# Altium footprint library Transformers.PcbLib: 55 footprints (part 1 of 4)
Each footprint in its own frame and in the unit in brackets; x right, y up, seen from the top. Pads: shape width x height; smd on the part's side, far side on the other; paste and mask are expansions set on the pad; w line width, h text height; cw(c..) or ccw(c..) is an arc to the next point about the centre after c.
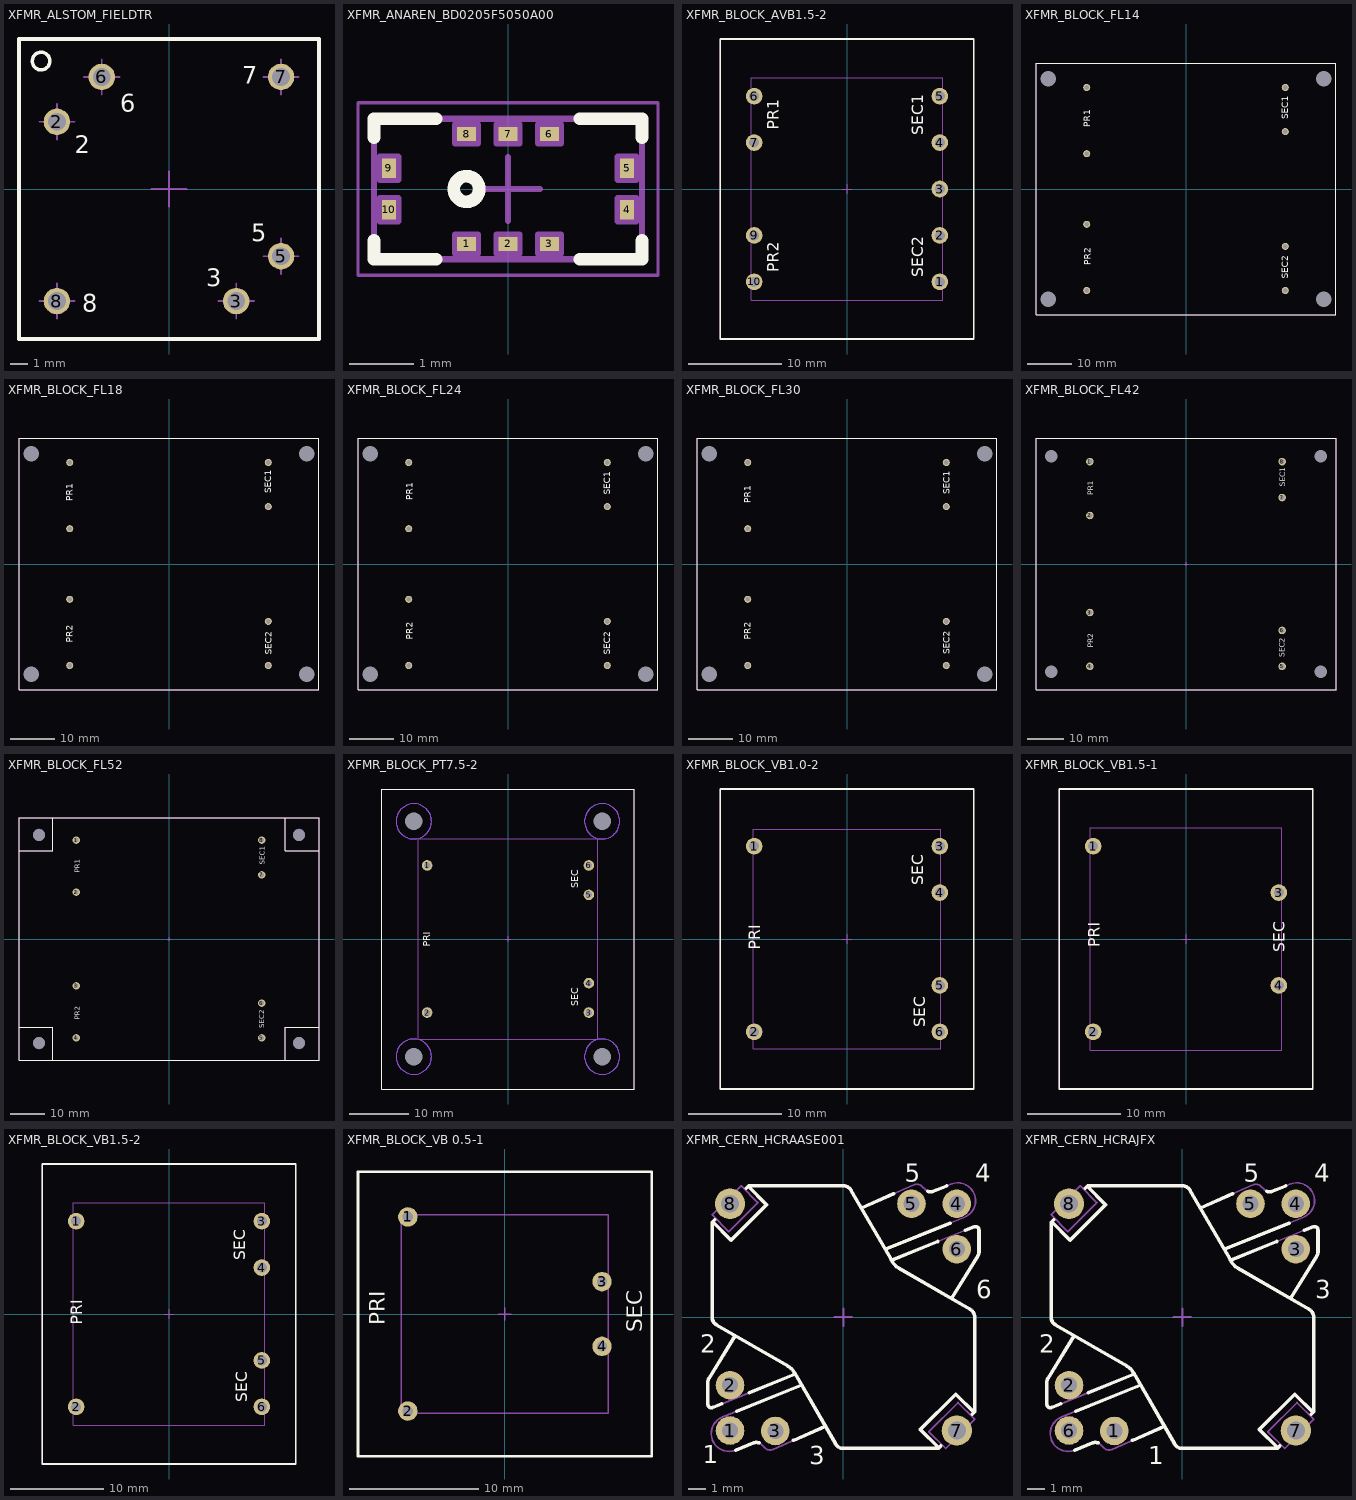
[diagram p0: the footprints below, top view; thin cyan lines are the x and y axes]

## XFMR_ALSTOM_FIELDTR [mm] "FIELDTR Transformer - Body 17X17mm"
height 10
pads (6):
  round 1.5 hole 1: 2(-6.35,3.81) 3(3.81,-6.35) 5(6.35,-3.81) 6(-3.81,6.35) 7(6.35,6.35) 8(-6.35,-6.35)
Top Overlay:
  circle w0.2: c-7.25,7.25 r0.5
  lines w0.2: -8.5,-8.5 8.5,-8.5 8.5,8.5 -8.5,8.5 -8.5,-8.5
  text "7" at 4.157,5.95 h1
  text "8" at -4.907,-6.95 h1
  text "2" at -5.336,2.033 h1
  text "6" at -2.771,4.388 h1
  text "5" at 4.657,-2.96 h1
  text "3" at 2.117,-5.5 h1
Mechanical 8:
  lines w0.1: -7.35,-6.35 -6.35,-6.35 ; -7.35,3.81 -6.35,3.81 ; -6.35,-7.35 -6.35,-6.35 ; -6.35,-5.35 -6.35,-6.35 ; -6.35,2.81 -6.35,3.81 ; -6.35,4.81 -6.35,3.81 ; -5.35,-6.35 -6.35,-6.35 ; -5.35,3.81 -6.35,3.81 ; -4.81,6.35 -3.81,6.35 ; -3.81,5.35 -3.81,6.35 ; -3.81,7.35 -3.81,6.35 ; -2.81,6.35 -3.81,6.35 ; -1,0 0,0 ; 0,-1 0,0 ; 0,1 0,0 ; 1,0 0,0 ; 2.81,-6.35 3.81,-6.35 ; 3.81,-7.35 3.81,-6.35 ; 3.81,-5.35 3.81,-6.35 ; 4.81,-6.35 3.81,-6.35 ; 5.35,-3.81 6.35,-3.81 ; 5.35,6.35 6.35,6.35 ; 6.35,-4.81 6.35,-3.81 ; 6.35,-2.81 6.35,-3.81 ; 6.35,5.35 6.35,6.35 ; 6.35,7.35 6.35,6.35 ; 7.35,-3.81 6.35,-3.81 ; 7.35,6.35 6.35,6.35
Mechanical 14:
  circle w0.1: c-7.25,7.25 r0.5
  lines w0.1: -8.5,-8.5 8.5,-8.5 8.5,8.5 -8.5,8.5 -8.5,-8.5
  text "7" at 4.157,5.95 h1
  text "8" at -4.907,-6.95 h1
  text "2" at -5.336,2.033 h1
  text "6" at -2.771,4.388 h1
  text "5" at 4.657,-2.96 h1
  text "3" at 2.117,-5.5 h1
3D body "XFMR_ALSTOM_FIELDTR.stp": height 10.5, standoff -3.2, extent -8.5,-8.5 8.5,8.5

## XFMR_ANAREN_BD0205F5050A00 [mm] "70MHz - 1000MHz Ultra Low Profile Sub-Miniature (Body 4.1x2.1mm) Balanced to Unbalanced Transformer"
height 0.91
pads (10):
  rect 0.3x0.22 smd: 1(-0.65,-0.86) 2(0,-0.86) 3(0.65,-0.86) 6(0.65,0.86) 7(0,0.86) 8(-0.65,0.86)
  rect 0.22x0.3 smd: 4(1.865,-0.325) 5(1.865,0.325) 9(-1.865,0.325) 10(-1.865,-0.325)
Top Overlay:
  circle w0.2: c-0.65,0 r0.2
  lines w0.2: -2.1,-0.805 -2.1,-1.1 -1.13,-1.1 ; -2.1,0.805 -2.1,1.1 -1.13,1.1 ; 1.13,-1.1 2.1,-1.1 2.1,-0.805 ; 1.13,1.1 2.1,1.1 2.1,0.805
Mechanical 8:
  lines w0.1: -0.5,0 0,0 ; 0,-0.5 0,0 ; 0,0.5 0,0 ; 0.5,0 0,0 ; -2.01,-0.505 -1.865,-0.325 -2.01,-0.145 ; -2.01,-0.505 -1.72,-0.505 -1.72,-0.145 -2.01,-0.145 ; -2.01,-0.505 -2.01,-0.145 ; -2.01,0.145 -1.865,0.325 -2.01,0.505 ; -2.01,0.145 -1.72,0.145 -1.72,0.505 -2.01,0.505 ; -2.01,0.145 -2.01,0.505 ; -0.83,-1.005 -0.65,-0.86 -0.47,-1.005 ; -0.83,-1.005 -0.83,-0.715 -0.47,-0.715 -0.47,-1.005 ; -0.83,-1.005 -0.47,-1.005 ; -0.83,1.005 -0.65,0.86 -0.47,1.005 ; -0.83,1.005 -0.83,0.715 -0.47,0.715 -0.47,1.005 ; -0.83,1.005 -0.47,1.005 ; -0.18,-1.005 0,-0.86 0.18,-1.005 ; -0.18,-1.005 -0.18,-0.715 0.18,-0.715 0.18,-1.005 ; -0.18,-1.005 0.18,-1.005 ; -0.18,1.005 0,0.86 0.18,1.005 ; -0.18,1.005 -0.18,0.715 0.18,0.715 0.18,1.005 ; -0.18,1.005 0.18,1.005 ; 0.47,-1.005 0.65,-0.86 0.83,-1.005 ; 0.47,-1.005 0.47,-0.715 0.83,-0.715 0.83,-1.005 ; 0.47,-1.005 0.83,-1.005 ; 0.47,1.005 0.65,0.86 0.83,1.005 ; 0.47,1.005 0.47,0.715 0.83,0.715 0.83,1.005 ; 0.47,1.005 0.83,1.005 ; 2.01,-0.505 1.865,-0.325 2.01,-0.145 ; 2.01,-0.505 1.72,-0.505 1.72,-0.145 2.01,-0.145 ; 2.01,-0.505 2.01,-0.145 ; 2.01,0.145 1.865,0.325 2.01,0.505 ; 2.01,0.145 1.72,0.145 1.72,0.505 2.01,0.505 ; 2.01,0.145 2.01,0.505
Mechanical 14:
  circle w0.1: c-0.65,0 r0.2
  lines w0.1: -2.1,-1.1 -2.1,1.1 2.1,1.1 2.1,-1.1 -2.1,-1.1
Mechanical 15:
  lines w0.05: -2.35,-1.35 -2.35,1.35 2.35,1.35 2.35,-1.35 -2.35,-1.35
3D body "XFMR_ANAREN_BD0205F5050A00.stp": height 0.91, standoff 0, extent -2.05,-1.05 2.05,1.05

## XFMR_BLOCK_AVB1.5-2 [mm] "BLOCK TRANSFORMATOREN Serie VB, Body 32.3mm x 27.3mm"
height 23.8
pads (9):
  round 1.8 hole 1.1: 1(10,-10) 2(10,-5) 3(10,0) 4(10,5) 5(10,10) 6(-10,10) 7(-10,5) 9(-10,-5) 10(-10,-10)
Top Overlay:
  lines w0.2: -13.65,-16.15 13.65,-16.15 13.65,16.15 -13.65,16.15 -13.65,-16.15
  text "PR1" at -7.375,6.375 h1.2
  text "PR2" at -7.375,-8.975 h1.2
  text "SEC1" at 8.225,5.8 h1.2
  text "SEC2" at 8.225,-9.525 h1.2
Mechanical 8:
  lines w0.1: -10.5,-10 -10,-10 ; -10.5,-5 -10,-5 ; -10.5,5 -10,5 ; -10.5,10 -10,10 ; -10,-10.5 -10,-10 ; -10,-9.5 -10,-10 ; -10,-5.5 -10,-5 ; -10,-4.5 -10,-5 ; -10,4.5 -10,5 ; -10,5.5 -10,5 ; -10,9.5 -10,10 ; -10,10.5 -10,10 ; -9.5,-10 -10,-10 ; -9.5,-5 -10,-5 ; -9.5,5 -10,5 ; -9.5,10 -10,10 ; -0.5,0 0,0 ; 0,-0.5 0,0 ; 0,0.5 0,0 ; 0.5,0 0,0 ; 9.5,-10 10,-10 ; 9.5,-5 10,-5 ; 9.5,0 10,0 ; 9.5,5 10,5 ; 9.5,10 10,10 ; 10,-10.5 10,-10 ; 10,-9.5 10,-10 ; 10,-5.5 10,-5 ; 10,-4.5 10,-5 ; 10,-0.5 10,0 ; 10,0.5 10,0 ; 10,4.5 10,5 ; 10,5.5 10,5 ; 10,9.5 10,10 ; 10,10.5 10,10 ; 10.5,-10 10,-10 ; 10.5,-5 10,-5 ; 10.5,0 10,0 ; 10.5,5 10,5 ; 10.5,10 10,10
Mechanical 14:
  lines w0.1: -13.65,-16.15 13.65,-16.15 13.65,16.15 -13.65,16.15 -13.65,-16.15 ; -10.3,-12 10.3,-12 10.3,12 -10.3,12 -10.3,-12
  text "PR1" at -7.375,6.375 h1.2
  text "PR2" at -7.375,-8.975 h1.2
  text "SEC1" at 8.225,5.8 h1.2
  text "SEC2" at 8.225,-9.525 h1.2
3D body "XFMR_BLOCK_AVB1.5-2.stp": height 23.6, standoff -3.6, extent -13.65,-16.15 13.65,16.15

## XFMR_BLOCK_FL14 [mm] "BLOCK TRANSFORMATOREN Serie FL, Body 68mm x 57mm"
height 24.4
pads (12):
  round 1.6 hole 1.1: 1(-22.5,23) 2(-22.5,8) 3(-22.5,-8) 4(-22.5,-23) 5(22.5,-23) 6(22.5,-13) 7(22.5,13) 8(22.5,23)
  round 1 hole 3.5 unplated: 9(31.25,25) 10(31.25,-25) 11(-31.25,-25) 12(-31.25,25)
Top Overlay:
  lines w0.2: -34,-28.5 34,-28.5 34,28.5 -34,28.5 -34,-28.5
  text "SEC1" at 23.225,15.8 h1.5
  text "SEC2" at 23.225,-20.4 h1.5
  text "PR2" at -21.6,-17.325 h1.5
  text "PR1" at -21.675,14.025 h1.5
Mechanical 14:
  lines w0.1: -34,-28.5 34,-28.5 34,28.5 -34,28.5 -34,-28.5
  text "SEC1" at 23.225,15.8 h1.5
  text "SEC2" at 23.225,-20.4 h1.5
  text "PR2" at -21.6,-17.325 h1.5
  text "PR1" at -21.675,14.025 h1.5
3D body "XFMR_BLOCK_FL14.stp": height 24.4, standoff -3.6, extent -34,-28.525 34,28.475

## XFMR_BLOCK_FL18 [mm] "BLOCK TRANSFORMATOREN Serie FL, Body 68mm x 57mm"
height 27.6
pads (12):
  round 1.6 hole 1.1: 1(-22.5,23) 2(-22.5,8) 3(-22.5,-8) 4(-22.5,-23) 5(22.5,-23) 6(22.5,-13) 7(22.5,13) 8(22.5,23)
  round 1 hole 3.5 unplated: 9(31.25,25) 10(31.25,-25) 11(-31.25,-25) 12(-31.25,25)
Top Overlay:
  lines w0.2: -34,-28.5 34,-28.5 34,28.5 -34,28.5 -34,-28.5
  text "SEC1" at 23.2,16.075 h1.5
  text "SEC2" at 23.3,-20.6 h1.5
  text "PR2" at -21.8,-17.825 h1.5
  text "PR1" at -21.8,14.2 h1.5
Mechanical 14:
  lines w0.1: -34,-28.5 34,-28.5 34,28.5 -34,28.5 -34,-28.5
  text "SEC1" at 23.2,16.075 h1.5
  text "SEC2" at 23.3,-20.6 h1.5
  text "PR2" at -21.8,-17.825 h1.5
  text "PR1" at -21.8,14.2 h1.5
3D body "XFMR_BLOCK_FL18.stp": height 27.6, standoff -3.6, extent -34,-28.525 34,28.475

## XFMR_BLOCK_FL24 [mm] "BLOCK TRANSFORMATOREN Serie FL, Body 68mm x 57mm"
height 31.4
pads (12):
  round 1.6 hole 1.1: 1(-22.5,23) 2(-22.5,8) 3(-22.5,-8) 4(-22.5,-23) 5(22.5,-23) 6(22.5,-13) 7(22.5,13) 8(22.5,23)
  round 1 hole 3.5 unplated: 9(31.25,25) 10(31.25,-25) 11(-31.25,-25) 12(-31.25,25)
Top Overlay:
  lines w0.2: -34,-28.5 -34,28.5 34,28.5 34,-28.5 -34,-28.5
  text "PR1" at -21.6,14.425 h1.5
  text "PR2" at -21.6,-17.175 h1.5
  text "SEC2" at 23.2,-20.55 h1.5
  text "SEC1" at 23.2,15.65 h1.5
Mechanical 14:
  lines w0.1: -34,-28.5 -34,28.5 34,28.5 34,-28.5 -34,-28.5
  text "PR1" at -21.6,14.425 h1.5
  text "PR2" at -21.6,-17.175 h1.5
  text "SEC2" at 23.2,-20.55 h1.5
  text "SEC1" at 23.2,15.65 h1.5
3D body "XFMR_BLOCK_FL24.stp": height 31.4, standoff -3.6, extent -34,-28.525 34,28.475

## XFMR_BLOCK_FL30 [mm] "BLOCK TRANSFORMATOREN Serie FL, Body 68mm x 57mm"
height 35.8
pads (12):
  round 1.6 hole 1.1: 1(-22.5,23) 2(-22.5,8) 3(-22.5,-8) 4(-22.5,-23) 5(22.5,-23) 6(22.5,-13) 7(22.5,13) 8(22.5,23)
  round 1 hole 3.5 unplated: 9(31.25,25) 10(31.25,-25) 11(-31.25,-25) 12(-31.25,25)
Top Overlay:
  lines w0.2: -34,-28.5 -34,28.5 34,28.5 34,-28.5 -34,-28.5
  text "PR1" at -21.8,13.775 h1.5
  text "PR2" at -21.8,-17.225 h1.5
  text "SEC2" at 23.325,-20.425 h1.5
  text "SEC1" at 23.325,15.775 h1.5
Mechanical 14:
  lines w0.1: -34,-28.5 -34,28.5 34,28.5 34,-28.5 -34,-28.5
  text "PR1" at -21.8,13.775 h1.5
  text "PR2" at -21.8,-17.225 h1.5
  text "SEC2" at 23.325,-20.425 h1.5
  text "SEC1" at 23.325,15.775 h1.5
3D body "XFMR_BLOCK_FL30.stp": height 35.8, standoff -3.6, extent -34,-28.525 34,28.475

## XFMR_BLOCK_FL42 [mm] "BLOCK TRANSFORMATOREN Serie FL, Body 83.5mm x 70mm"
height 39
pads (12):
  round 2.1 hole 1.4: 1(-26.75,28.5) 2(-26.75,13.5) 3(-26.75,-13.5) 4(-26.75,-28.5) 5(26.75,-28.5) 6(26.75,-18.5) 7(26.75,18.5) 8(26.75,28.5)
  round 1 hole 3.5 unplated: 9(37.5,30) 10(37.5,-30) 11(-37.5,-30) 12(-37.5,30)
Top Overlay:
  lines w0.2: -41.75,-35 41.75,-35 41.75,35 -41.75,35 -41.75,-35
  text "SEC1" at 27.575,21.45 h1.5
  text "SEC2" at 27.45,-25.95 h1.5
  text "PR2" at -25.75,-23.35 h1.5
  text "PR1" at -25.75,19.15 h1.5
Mechanical 8:
  lines w0.1: -38,-30 -37.5,-30 ; -38,30 -37.5,30 ; -37.5,-30.5 -37.5,-30 ; -37.5,-29.5 -37.5,-30 ; -37.5,29.5 -37.5,30 ; -37.5,30.5 -37.5,30 ; -37,-30 -37.5,-30 ; -37,30 -37.5,30 ; -27.25,-28.5 -26.75,-28.5 ; -27.25,-13.5 -26.75,-13.5 ; -27.25,13.5 -26.75,13.5 ; -27.25,28.5 -26.75,28.5 ; -26.75,-29 -26.75,-28.5 ; -26.75,-28 -26.75,-28.5 ; -26.75,-14 -26.75,-13.5 ; -26.75,-13 -26.75,-13.5 ; -26.75,13 -26.75,13.5 ; -26.75,14 -26.75,13.5 ; -26.75,28 -26.75,28.5 ; -26.75,29 -26.75,28.5 ; -26.25,-28.5 -26.75,-28.5 ; -26.25,-13.5 -26.75,-13.5 ; -26.25,13.5 -26.75,13.5 ; -26.25,28.5 -26.75,28.5 ; -0.5,0 0,0 ; 0,-0.5 0,0 ; 0,0.5 0,0 ; 0.5,0 0,0 ; 26.25,-28.5 26.75,-28.5 ; 26.25,-18.5 26.75,-18.5 ; 26.25,18.5 26.75,18.5 ; 26.25,28.5 26.75,28.5 ; 26.75,-29 26.75,-28.5 ; 26.75,-28 26.75,-28.5 ; 26.75,-19 26.75,-18.5 ; 26.75,-18 26.75,-18.5 ; 26.75,18 26.75,18.5 ; 26.75,19 26.75,18.5 ; 26.75,28 26.75,28.5 ; 26.75,29 26.75,28.5 ; 27.25,-28.5 26.75,-28.5 ; 27.25,-18.5 26.75,-18.5 ; 27.25,18.5 26.75,18.5 ; 27.25,28.5 26.75,28.5 ; 37,-30 37.5,-30 ; 37,30 37.5,30 ; 37.5,-30.5 37.5,-30 ; 37.5,-29.5 37.5,-30 ; 37.5,29.5 37.5,30 ; 37.5,30.5 37.5,30 ; 38,-30 37.5,-30 ; 38,30 37.5,30
Mechanical 14:
  lines w0.1: -41.75,-35 -41.75,35 41.75,35 41.75,-35 -41.75,-35
  text "SEC1" at 27.575,21.45 h1.5
  text "SEC2" at 27.45,-25.95 h1.5
  text "PR2" at -25.75,-23.35 h1.5
  text "PR1" at -25.75,19.15 h1.5
3D body "XFMR_BLOCK_FL42.stp": height 39, standoff -3.6, extent -41.75,-35 41.75,35

## XFMR_BLOCK_FL52 [mm] "BLOCK TRANSFORMATOREN Serie FL, Body 86.5mm x 70mm"
height 39
pads (12):
  round 2.1 hole 1.4: 1(-26.75,28.5) 2(-26.75,13.5) 3(-26.75,-13.5) 4(-26.75,-28.5) 5(26.75,-28.5) 6(26.75,-18.5) 7(26.75,18.5) 8(26.75,28.5)
  round 1 hole 3.5 unplated: 9(37.5,30) 10(37.5,-30) 11(-37.5,-30) 12(-37.5,30)
Top Overlay:
  lines w0.2: -43.25,-25.5 -33.5,-25.5 -33.5,-35 ; -43.25,25.5 -33.5,25.5 -33.5,35 ; 33.5,-35 33.5,-25.5 43.25,-25.5 ; 33.5,35 33.5,25.5 43.25,25.5 ; -43.25,-35 43.25,-35 ; -43.25,-35 -43.25,35 ; -43.25,-35 43.25,-35 ; -43.25,-35 -43.25,35 ; -43.25,35 43.25,35 ; -43.25,35 43.25,35 ; 43.25,-35 43.25,35 ; 43.25,-35 43.25,35
  text "PR1" at -25.75,19.15 h1.5
  text "PR2" at -25.75,-23.35 h1.5
  text "SEC2" at 27.45,-25.8 h1.5
  text "SEC1" at 27.6,21.425 h1.5
Mechanical 8:
  lines w0.1: -38,-30 -37.5,-30 ; -38,30 -37.5,30 ; -37.5,-30.5 -37.5,-30 ; -37.5,-29.5 -37.5,-30 ; -37.5,29.5 -37.5,30 ; -37.5,30.5 -37.5,30 ; -37,-30 -37.5,-30 ; -37,30 -37.5,30 ; -27.25,-28.5 -26.75,-28.5 ; -27.25,-13.5 -26.75,-13.5 ; -27.25,13.5 -26.75,13.5 ; -27.25,28.5 -26.75,28.5 ; -26.75,-29 -26.75,-28.5 ; -26.75,-28 -26.75,-28.5 ; -26.75,-14 -26.75,-13.5 ; -26.75,-13 -26.75,-13.5 ; -26.75,13 -26.75,13.5 ; -26.75,14 -26.75,13.5 ; -26.75,28 -26.75,28.5 ; -26.75,29 -26.75,28.5 ; -26.25,-28.5 -26.75,-28.5 ; -26.25,-13.5 -26.75,-13.5 ; -26.25,13.5 -26.75,13.5 ; -26.25,28.5 -26.75,28.5 ; -0.5,0 0,0 ; 0,-0.5 0,0 ; 0,0.5 0,0 ; 0.5,0 0,0 ; 26.25,-28.5 26.75,-28.5 ; 26.25,-18.5 26.75,-18.5 ; 26.25,18.5 26.75,18.5 ; 26.25,28.5 26.75,28.5 ; 26.75,-29 26.75,-28.5 ; 26.75,-28 26.75,-28.5 ; 26.75,-19 26.75,-18.5 ; 26.75,-18 26.75,-18.5 ; 26.75,18 26.75,18.5 ; 26.75,19 26.75,18.5 ; 26.75,28 26.75,28.5 ; 26.75,29 26.75,28.5 ; 27.25,-28.5 26.75,-28.5 ; 27.25,-18.5 26.75,-18.5 ; 27.25,18.5 26.75,18.5 ; 27.25,28.5 26.75,28.5 ; 37,-30 37.5,-30 ; 37,30 37.5,30 ; 37.5,-30.5 37.5,-30 ; 37.5,-29.5 37.5,-30 ; 37.5,29.5 37.5,30 ; 37.5,30.5 37.5,30 ; 38,-30 37.5,-30 ; 38,30 37.5,30
Mechanical 14:
  circle w0.1: c37.5,30 r1.6
  circle w0.1: c-37.5,30 r1.6
  circle w0.1: c-37.5,-30 r1.6
  circle w0.1: c37.5,-30 r1.6
  lines w0.1: -43.25,-25.5 -33.5,-25.5 -33.5,-35 ; -43.25,25.5 -33.5,25.5 -33.5,35 ; 33.5,-35 33.5,-25.5 43.25,-25.5 ; 33.5,35 33.5,25.5 43.25,25.5 ; -43.25,-35 43.25,-35 ; -43.25,-35 -43.25,35 ; -43.25,-35 43.25,-35 ; -43.25,-35 -43.25,35 ; -43.25,35 43.25,35 ; -43.25,35 43.25,35 ; 43.25,-35 43.25,35 ; 43.25,-35 43.25,35
  text "PR1" at -25.75,19.15 h1.5
  text "PR2" at -25.75,-23.35 h1.5
  text "SEC2" at 27.45,-25.8 h1.5
  text "SEC1" at 27.6,21.425 h1.5
3D body "XFMR_BLOCK_FL52.stp": height 49, standoff -3.1, extent -43.25,-35 43.25,35

## XFMR_BLOCK_PT7.5-2 [mm] "BLOCK TRANSFORMATOREN Serie PT, Body 43mm x 51mm"
height 36
pads (10):
  round 1.8 hole 1.1: 1(-13.75,12.5) 2(-13.75,-12.5) 3(13.75,-12.5) 4(13.75,-7.5) 5(13.75,7.5) 6(13.75,12.5)
  round 1 hole 3 unplated: 7(-16,20) 8(-16,-20) 9(16,-20) 10(16,20)
Bottom Layer keep-out:
  circle w0.1: c-16,-20 r3
  circle w0.1: c16,-20 r3
  circle w0.1: c16,20 r3
  circle w0.1: c-16,20 r3
Top Overlay:
  lines w0.2: -21.5,-25.5 -21.5,25.5 21.5,25.5 21.5,-25.5 -21.5,-25.5
  text "SEC" at 11.975,8.6 h1.2
  text "PRI" at -13.2,-1.3 h1.2
  text "SEC" at 11.975,-11.4 h1.2
Mechanical 8:
  circle w0.1: c-16,20 r3
  circle w0.1: c-16,-20 r3
  circle w0.1: c16,-20 r3
  circle w0.1: c16,20 r3
  circle w0.1: c-16,20 r3
  lines w0.1: -16.5,-20 -16,-20 ; -16.5,20 -16,20 ; -16,-20.5 -16,-20 ; -16,-19.5 -16,-20 ; -16,19.5 -16,20 ; -16,20.5 -16,20 ; -15.5,-20 -16,-20 ; -15.5,20 -16,20 ; -14.25,-12.5 -13.75,-12.5 ; -14.25,12.5 -13.75,12.5 ; -13.75,-13 -13.75,-12.5 ; -13.75,-12 -13.75,-12.5 ; -13.75,12 -13.75,12.5 ; -13.75,13 -13.75,12.5 ; -13.25,-12.5 -13.75,-12.5 ; -13.25,12.5 -13.75,12.5 ; -0.5,0 0,0 ; 0,-0.5 0,0 ; 0,0.5 0,0 ; 0.5,0 0,0 ; 13.25,-12.5 13.75,-12.5 ; 13.25,-7.5 13.75,-7.5 ; 13.25,7.5 13.75,7.5 ; 13.25,12.5 13.75,12.5 ; 13.75,-13 13.75,-12.5 ; 13.75,-12 13.75,-12.5 ; 13.75,-8 13.75,-7.5 ; 13.75,-7 13.75,-7.5 ; 13.75,7 13.75,7.5 ; 13.75,8 13.75,7.5 ; 13.75,12 13.75,12.5 ; 13.75,13 13.75,12.5 ; 14.25,-12.5 13.75,-12.5 ; 14.25,-7.5 13.75,-7.5 ; 14.25,7.5 13.75,7.5 ; 14.25,12.5 13.75,12.5 ; 15.5,-20 16,-20 ; 15.5,20 16,20 ; 16,-20.5 16,-20 ; 16,-19.5 16,-20 ; 16,19.5 16,20 ; 16,20.5 16,20 ; 16.5,-20 16,-20 ; 16.5,20 16,20
Mechanical 14:
  lines w0.1: -21.5,-25.5 21.5,-25.5 21.5,25.5 -21.5,25.5 -21.5,-25.5 ; -15.25,-17.05 -15.25,17.05 15.25,17.05 15.25,-17.05 -15.25,-17.05
  text "SEC" at 11.975,8.6 h1.2
  text "PRI" at -13.2,-1.3 h1.2
  text "SEC" at 11.975,-11.4 h1.2
3D body "XFMR_BLOCK_PT7.5-2.stp": height 36, standoff -3.6, extent -21.5,-25.5 21.5,25.5

## XFMR_BLOCK_VB1.0-2 [mm] "BLOCK TRANSFORMATOREN Serie VB, Body 27.3mm x 32.3mm"
height 21.8
pads (6):
  round 1.8 hole 1.1: 1(-10,10) 2(-10,-10) 3(10,10) 4(10,5) 5(10,-5) 6(10,-10)
Top Overlay:
  lines w0.2: -13.65,-16.15 13.65,-16.15 13.65,16.15 -13.65,16.15 -13.65,-16.15
  text "PRI" at -9.35,-1.175 h1.2
  text "SEC" at 8.225,5.8 h1.2
  text "SEC" at 8.4,-9.5 h1.2
Mechanical 8:
  lines w0.1: -10.5,-10 -10,-10 ; -10.5,10 -10,10 ; -10,-10.5 -10,-10 ; -10,-9.5 -10,-10 ; -10,9.5 -10,10 ; -10,10.5 -10,10 ; -9.5,-10 -10,-10 ; -9.5,10 -10,10 ; -0.5,0 0,0 ; 0,-0.5 0,0 ; 0,0.5 0,0 ; 0.5,0 0,0 ; 9.5,-10 10,-10 ; 9.5,-5 10,-5 ; 9.5,5 10,5 ; 9.5,10 10,10 ; 10,-10.5 10,-10 ; 10,-9.5 10,-10 ; 10,-5.5 10,-5 ; 10,-4.5 10,-5 ; 10,4.5 10,5 ; 10,5.5 10,5 ; 10,9.5 10,10 ; 10,10.5 10,10 ; 10.5,-10 10,-10 ; 10.5,-5 10,-5 ; 10.5,5 10,5 ; 10.5,10 10,10
Mechanical 14:
  lines w0.1: -13.65,-16.15 13.65,-16.15 13.65,16.15 -13.65,16.15 -13.65,-16.15 ; -10.1,-11.8 10.1,-11.8 10.1,11.8 -10.1,11.8 -10.1,-11.8
  text "PRI" at -9.35,-1.175 h1.2
  text "SEC" at 8.225,5.8 h1.2
  text "SEC" at 8.4,-9.5 h1.2
3D body "XFMR_BLOCK_VB1.0-2.stp": height 21.8, standoff -3.6, extent -13.65,-16.15 13.65,16.15

## XFMR_BLOCK_VB1.5-1 [mm] "BLOCK TRANSFORMATOREN Serie VB, Body 27.3mm x 32.3mm"
height 23.8
pads (4):
  round 1.8 hole 1.1: 1(-10,10) 2(-10,-10) 3(10,5) 4(10,-5)
Top Overlay:
  lines w0.2: -13.65,-16.15 -13.65,16.15 13.65,16.15 13.65,-16.15 -13.65,-16.15
  text "PRI" at -9.275,-0.875 h1.2
  text "SEC" at 10.625,-1.425 h1.2
Mechanical 8:
  lines w0.1: -10.5,-10 -10,-10 ; -10.5,10 -10,10 ; -10,-10.5 -10,-10 ; -10,-9.5 -10,-10 ; -10,9.5 -10,10 ; -10,10.5 -10,10 ; -9.5,-10 -10,-10 ; -9.5,10 -10,10 ; -0.5,0 0,0 ; 0,-0.5 0,0 ; 0,0.5 0,0 ; 0.5,0 0,0 ; 9.5,-5 10,-5 ; 9.5,5 10,5 ; 10,-5.5 10,-5 ; 10,-4.5 10,-5 ; 10,4.5 10,5 ; 10,5.5 10,5 ; 10.5,-5 10,-5 ; 10.5,5 10,5
Mechanical 14:
  lines w0.1: -13.65,-16.15 -13.65,16.15 13.65,16.15 13.65,-16.15 -13.65,-16.15 ; -10.3,-12 10.3,-12 10.3,12 -10.3,12 -10.3,-12
  text "PRI" at -9.275,-0.875 h1.2
  text "SEC" at 10.625,-1.425 h1.2
3D body "XFMR_BLOCK_VB1.5-1.stp": height 23.8, standoff -3.6, extent -13.65,-16.15 13.65,16.15

## XFMR_BLOCK_VB1.5-2 [mm] "BLOCK TRANSFORMATOREN Serie VB, Body 32.3mm x 27.3mm"
height 23.8
pads (6):
  round 1.8 hole 1.1: 1(-10,10) 2(-10,-10) 3(10,10) 4(10,5) 5(10,-5) 6(10,-10)
Top Overlay:
  lines w0.2: -13.65,-16.15 -13.65,16.15 13.65,16.15 13.65,-16.15 -13.65,-16.15
  text "SEC" at 8.225,5.8 h1.2
  text "SEC" at 8.4,-9.5 h1.2
  text "PRI" at -9.35,-1.175 h1.2
Mechanical 8:
  lines w0.1: -10.5,-10 -10,-10 ; -10.5,10 -10,10 ; -10,-10.5 -10,-10 ; -10,-9.5 -10,-10 ; -10,9.5 -10,10 ; -10,10.5 -10,10 ; -9.5,-10 -10,-10 ; -9.5,10 -10,10 ; -0.5,0 0,0 ; 0,-0.5 0,0 ; 0,0.5 0,0 ; 0.5,0 0,0 ; 9.5,-10 10,-10 ; 9.5,-5 10,-5 ; 9.5,5 10,5 ; 9.5,10 10,10 ; 10,-10.5 10,-10 ; 10,-9.5 10,-10 ; 10,-5.5 10,-5 ; 10,-4.5 10,-5 ; 10,4.5 10,5 ; 10,5.5 10,5 ; 10,9.5 10,10 ; 10,10.5 10,10 ; 10.5,-10 10,-10 ; 10.5,-5 10,-5 ; 10.5,5 10,5 ; 10.5,10 10,10
Mechanical 14:
  lines w0.1: -13.65,-16.15 -13.65,16.15 13.65,16.15 13.65,-16.15 -13.65,-16.15 ; -10.3,-12 10.3,-12 10.3,12 -10.3,12 -10.3,-12
  text "SEC" at 8.225,5.8 h1.2
  text "SEC" at 8.4,-9.5 h1.2
  text "PRI" at -9.35,-1.175 h1.2
3D body "XFMR_BLOCK_VB1.5-2.stp": height 23.8, standoff -3.8, extent -13.65,-16.15 13.65,16.15

## XFMR_BLOCK_VB 0.5-1 [mm] "BLOCK TRANSFORMATOREN Serie VB, Body 22.7mm x 22mm"
height 23.8
pads (4):
  round 1.5 hole 0.8: 1(-7.5,7.5) 2(-7.5,-7.5) 3(7.5,2.5) 4(7.5,-2.5)
Top Overlay:
  lines w0.2: -11.35,-11 -11.35,11 11.35,11 11.35,-11 -11.35,-11
  text "SEC" at 10.625,-1.425 h1.2
  text "PRI" at -9.275,-0.875 h1.2
Mechanical 8:
  lines w0.1: -8,-7.5 -7.5,-7.5 ; -8,7.5 -7.5,7.5 ; -7.5,-8 -7.5,-7.5 ; -7.5,-7 -7.5,-7.5 ; -7.5,7 -7.5,7.5 ; -7.5,8 -7.5,7.5 ; -7,-7.5 -7.5,-7.5 ; -7,7.5 -7.5,7.5 ; -0.5,0 0,0 ; 0,-0.5 0,0 ; 0,0.5 0,0 ; 0.5,0 0,0 ; 7,-2.5 7.5,-2.5 ; 7,2.5 7.5,2.5 ; 7.5,-3 7.5,-2.5 ; 7.5,-2 7.5,-2.5 ; 7.5,2 7.5,2.5 ; 7.5,3 7.5,2.5 ; 8,-2.5 7.5,-2.5 ; 8,2.5 7.5,2.5
Mechanical 14:
  lines w0.1: -11.35,-11 -11.35,11 11.35,11 11.35,-11 -11.35,-11 ; -8,-7.65 -8,7.65 8,7.65 8,-7.65 -8,-7.65
  text "SEC" at 10.625,-1.425 h1.2
  text "PRI" at -9.275,-0.875 h1.2
3D body "XFMR_BLOCK_VB 0.5-1.stp": height 19, standoff -3.6, extent -11.35,-11 11.35,11

## XFMR_CERN_HCRAASE001 [mm] "CERN HF Power Transformer RM6"
height 12.5
pads (8):
  round 1.6 hole 0.9: 1(-6.35,-6.35) 2(-6.35,-3.81) 3(-3.81,-6.375) 4(6.35,6.35) 5(3.81,6.35) 6(6.35,3.81)
  round 1.7 hole 1: 7(6.35,-6.35) 8(-6.35,6.35)
Top Overlay:
  lines w0.2: -7.322,5.336 -6.293,4.307 -4.304,6.296 -5.333,7.325 ; -7.212,5.445 -7.354,5.303 -7.354,0.001 ccw(c-6.854,0.001) -7.104,-0.432 -3.106,-2.74 cw(c-3.606,-3.606) -2.74,-3.106 -0.432,-7.104 ccw(c0.001,-6.854) 0.001,-7.354 5.303,-7.354 5.445,-7.212 ; -6.824,-4.858 -7.317,-5.058 cw(c-7.392,-4.872) -7.592,-4.872 -7.592,-3.645 cw(c-7.192,-3.645) -7.532,-3.435 -6.055,-1.038 ; -6.027,-7.448 -5.028,-7.044 cw(c-4.878,-7.415) -4.727,-7.044 ; -5.966,-5.266 -2.34,-3.799 ; -5.445,7.212 -5.303,7.354 -0.001,7.354 cw(c-0.001,6.854) 0.432,7.104 2.74,3.106 ccw(c3.606,3.606) 3.106,2.74 7.104,0.432 cw(c6.854,-0.001) 7.354,-0.001 7.354,-5.303 7.212,-5.445 ; -5.281,-4.234 -2.694,-3.187 ; -2.803,-6.905 -1.006,-6.11 ; 1.006,6.11 2.803,6.905 ; 2.34,3.799 5.966,5.266 ; 2.694,3.187 5.281,4.234 ; 4.31,-6.29 5.339,-7.319 4.309,-6.291 6.29,-4.31 ; 4.727,7.044 ccw(c4.878,7.415) 5.028,7.044 5.776,7.347 ; 6.055,1.038 7.532,3.435 ccw(c7.192,3.645) 7.592,3.645 7.592,4.872 ccw(c7.392,4.872) 7.317,5.058 6.824,4.858 ; 7.319,-5.339 6.29,-4.31 ; 7.32,-5.338 6.29,-4.31
  text "2" at -8.025,-2 h1
  text "3" at -1.9,-8.225 h1
  text "5" at 3.425,7.575 h1
  text "6" at 7.425,1.05 h1
  text "4" at 7.375,7.575 h1
  text "1" at -7.875,-8.175 h1
Mechanical 8:
  lines w0.1: -6.85,-6.35 -6.35,-6.35 ; -6.85,-3.81 -6.35,-3.81 ; -6.85,6.35 -6.35,6.35 ; -6.35,-6.85 -6.35,-6.35 ; -6.35,-5.85 -6.35,-6.35 ; -6.35,-4.31 -6.35,-3.81 ; -6.35,-3.31 -6.35,-3.81 ; -6.35,5.85 -6.35,6.35 ; -6.35,6.85 -6.35,6.35 ; -5.85,-6.35 -6.35,-6.35 ; -5.85,-3.81 -6.35,-3.81 ; -5.85,6.35 -6.35,6.35 ; -4.31,-6.35 -3.81,-6.35 ; -3.81,-6.85 -3.81,-6.35 ; -3.81,-5.85 -3.81,-6.35 ; -3.31,-6.35 -3.81,-6.35 ; -0.5,0 0,0 ; 0,-0.5 0,0 ; 0,0.5 0,0 ; 0.5,0 0,0 ; 3.31,6.35 3.81,6.35 ; 3.81,5.85 3.81,6.35 ; 3.81,6.85 3.81,6.35 ; 4.31,6.35 3.81,6.35 ; 5.85,-6.35 6.35,-6.35 ; 5.85,3.81 6.35,3.81 ; 5.85,6.35 6.35,6.35 ; 6.35,-6.85 6.35,-6.35 ; 6.35,-5.85 6.35,-6.35 ; 6.35,3.31 6.35,3.81 ; 6.35,4.31 6.35,3.81 ; 6.35,5.85 6.35,6.35 ; 6.35,6.85 6.35,6.35 ; 6.85,-6.35 6.35,-6.35 ; 6.85,3.81 6.35,3.81 ; 6.85,6.35 6.35,6.35
Mechanical 14:
  lines w0.1: -7.322,5.336 -6.293,4.307 -4.304,6.296 -5.333,7.325 ; -7.142,5.515 -7.354,5.303 -7.354,0.001 ccw(c-6.854,0.001) -7.104,-0.432 -3.106,-2.74 cw(c-3.606,-3.606) -2.74,-3.106 -0.432,-7.104 ccw(c0.001,-6.854) 0.001,-7.354 5.303,-7.354 5.515,-7.142 ; -6.055,-1.038 -7.532,-3.435 ccw(c-7.192,-3.645) -7.592,-3.645 -7.592,-4.872 ccw(c-7.392,-4.872) -7.317,-5.058 -2.694,-3.187 ; -5.515,7.142 -5.303,7.354 -0.001,7.354 cw(c-0.001,6.854) 0.432,7.104 2.74,3.106 ccw(c3.606,3.606) 3.106,2.74 7.104,0.432 cw(c6.854,-0.001) 7.354,-0.001 7.354,-5.303 7.142,-5.515 ; -2.34,-3.799 -6.777,-5.594 ccw(c-6.402,-6.521) -6.027,-7.448 -5.028,-7.044 cw(c-4.878,-7.415) -4.6,-7.127 -4.387,-7.333 ccw(c-4.109,-7.045) -3.947,-7.411 -1.006,-6.11 ; 1.006,6.11 3.947,7.411 cw(c4.109,7.045) 4.387,7.333 4.6,7.127 ccw(c4.878,7.415) 5.028,7.044 6.027,7.448 cw(c6.402,6.521) 6.777,5.594 2.34,3.799 ; 2.694,3.187 7.317,5.058 cw(c7.392,4.872) 7.592,4.872 7.592,3.645 cw(c7.192,3.645) 7.532,3.435 6.055,1.038 ; 4.31,-6.29 5.339,-7.319 4.309,-6.291 6.29,-4.31 ; 7.319,-5.339 6.29,-4.31 ; 7.32,-5.338 6.29,-4.31 ; -7.355,5.728 -6.415,4.789 -4.789,6.415 -5.728,7.355 -7.355,5.728 ; 4.789,-6.415 6.415,-4.789 7.355,-5.728 5.728,-7.355 4.789,-6.415
  text "2" at -8.025,-2 h1
  text "3" at -1.9,-8.225 h1
  text "5" at 3.425,7.575 h1
  text "6" at 7.425,1.05 h1
  text "4" at 7.375,7.575 h1
  text "1" at -7.875,-8.175 h1
3D body "XFMR_CERN_HCRAASE001.stp": height 12.4, standoff -4.12, extent -7.592,-7.513 7.592,7.514

## XFMR_CERN_HCRAJFX [mm] "CERN Current Transformer  RM6"
height 12.5
pads (8):
  round 1.6 hole 0.9: 1(-3.81,-6.375) 2(-6.35,-3.81) 3(6.35,3.81) 4(6.35,6.35) 5(3.81,6.35) 6(-6.35,-6.35)
  round 1.7 hole 1: 7(6.35,-6.35) 8(-6.35,6.35)
Top Overlay:
  lines w0.2: -7.322,5.336 -6.293,4.307 -4.304,6.296 -5.333,7.325 ; -7.212,5.445 -7.354,5.303 -7.354,0.001 ccw(c-6.854,0.001) -7.104,-0.432 -3.106,-2.74 cw(c-3.606,-3.606) -2.74,-3.106 -0.432,-7.104 ccw(c0.001,-6.854) 0.001,-7.354 5.303,-7.354 5.445,-7.212 ; -6.824,-4.858 -7.317,-5.058 cw(c-7.392,-4.872) -7.592,-4.872 -7.592,-3.645 cw(c-7.192,-3.645) -7.532,-3.435 -6.055,-1.038 ; -6.027,-7.448 -5.028,-7.044 cw(c-4.878,-7.415) -4.727,-7.044 ; -5.966,-5.266 -2.34,-3.799 ; -5.445,7.212 -5.303,7.354 -0.001,7.354 cw(c-0.001,6.854) 0.432,7.104 2.74,3.106 ccw(c3.606,3.606) 3.106,2.74 7.104,0.432 cw(c6.854,-0.001) 7.354,-0.001 7.354,-5.303 7.212,-5.445 ; -5.281,-4.234 -2.694,-3.187 ; -2.803,-6.905 -1.006,-6.11 ; 1.006,6.11 2.803,6.905 ; 2.34,3.799 5.966,5.266 ; 2.694,3.187 5.281,4.234 ; 4.31,-6.29 5.339,-7.319 4.309,-6.291 6.29,-4.31 ; 4.727,7.044 ccw(c4.878,7.415) 5.028,7.044 5.776,7.347 ; 6.055,1.038 7.532,3.435 ccw(c7.192,3.645) 7.592,3.645 7.592,4.872 ccw(c7.392,4.872) 7.317,5.058 6.824,4.858 ; 7.319,-5.339 6.29,-4.31 ; 7.32,-5.338 6.29,-4.31
  text "4" at 7.375,7.575 h1
  text "3" at 7.425,1.05 h1
  text "5" at 3.425,7.575 h1
  text "1" at -1.9,-8.225 h1
  text "2" at -8.025,-2 h1
Mechanical 8:
  lines w0.1: -6.85,-6.35 -6.35,-6.35 ; -6.85,-3.81 -6.35,-3.81 ; -6.85,6.35 -6.35,6.35 ; -6.35,-6.85 -6.35,-6.35 ; -6.35,-5.85 -6.35,-6.35 ; -6.35,-4.31 -6.35,-3.81 ; -6.35,-3.31 -6.35,-3.81 ; -6.35,5.85 -6.35,6.35 ; -6.35,6.85 -6.35,6.35 ; -5.85,-6.35 -6.35,-6.35 ; -5.85,-3.81 -6.35,-3.81 ; -5.85,6.35 -6.35,6.35 ; -4.31,-6.35 -3.81,-6.35 ; -3.81,-6.85 -3.81,-6.35 ; -3.81,-5.85 -3.81,-6.35 ; -3.31,-6.35 -3.81,-6.35 ; -0.5,0 0,0 ; 0,-0.5 0,0 ; 0,0.5 0,0 ; 0.5,0 0,0 ; 3.31,6.35 3.81,6.35 ; 3.81,5.85 3.81,6.35 ; 3.81,6.85 3.81,6.35 ; 4.31,6.35 3.81,6.35 ; 5.85,-6.35 6.35,-6.35 ; 5.85,3.81 6.35,3.81 ; 5.85,6.35 6.35,6.35 ; 6.35,-6.85 6.35,-6.35 ; 6.35,-5.85 6.35,-6.35 ; 6.35,3.31 6.35,3.81 ; 6.35,4.31 6.35,3.81 ; 6.35,5.85 6.35,6.35 ; 6.35,6.85 6.35,6.35 ; 6.85,-6.35 6.35,-6.35 ; 6.85,3.81 6.35,3.81 ; 6.85,6.35 6.35,6.35
Mechanical 14:
  lines w0.1: -7.322,5.336 -6.293,4.307 -4.304,6.296 -5.333,7.325 ; -7.142,5.515 -7.354,5.303 -7.354,0.001 ccw(c-6.854,0.001) -7.104,-0.432 -3.106,-2.74 cw(c-3.606,-3.606) -2.74,-3.106 -0.432,-7.104 ccw(c0.001,-6.854) 0.001,-7.354 5.303,-7.354 5.515,-7.142 ; -6.055,-1.038 -7.532,-3.435 ccw(c-7.192,-3.645) -7.592,-3.645 -7.592,-4.872 ccw(c-7.392,-4.872) -7.317,-5.058 -2.694,-3.187 ; -5.515,7.142 -5.303,7.354 -0.001,7.354 cw(c-0.001,6.854) 0.432,7.104 2.74,3.106 ccw(c3.606,3.606) 3.106,2.74 7.104,0.432 cw(c6.854,-0.001) 7.354,-0.001 7.354,-5.303 7.142,-5.515 ; -2.34,-3.799 -6.777,-5.594 ccw(c-6.402,-6.521) -6.027,-7.448 -5.028,-7.044 cw(c-4.878,-7.415) -4.6,-7.127 -4.387,-7.333 ccw(c-4.109,-7.045) -3.947,-7.411 -1.006,-6.11 ; 1.006,6.11 3.947,7.411 cw(c4.109,7.045) 4.387,7.333 4.6,7.127 ccw(c4.878,7.415) 5.028,7.044 6.027,7.448 cw(c6.402,6.521) 6.777,5.594 2.34,3.799 ; 2.694,3.187 7.317,5.058 cw(c7.392,4.872) 7.592,4.872 7.592,3.645 cw(c7.192,3.645) 7.532,3.435 6.055,1.038 ; 4.31,-6.29 5.339,-7.319 4.309,-6.291 6.29,-4.31 ; 7.319,-5.339 6.29,-4.31 ; 7.32,-5.338 6.29,-4.31 ; -7.355,5.728 -5.728,7.355 -4.789,6.415 -6.415,4.789 -7.355,5.728 ; 4.789,-6.415 5.728,-7.355 7.355,-5.728 6.415,-4.789 4.789,-6.415
  text "4" at 7.375,7.575 h1
  text "3" at 7.425,1.05 h1
  text "5" at 3.425,7.575 h1
  text "1" at -1.9,-8.225 h1
  text "2" at -8.025,-2 h1
3D body "XFMR_CERN_HCRAJFX.stp": height 12.4, standoff -4.12, extent -7.592,-7.513 7.592,7.514